# Altium schematic symbol library SCH - MCU - STM32 - ST MICROELECTRONICS STM32G071C(6-8-B)UX UFQFPN48.SchLib: 1 symbol
Pins are listed as number, name and electrical type; pins without a type are passive.

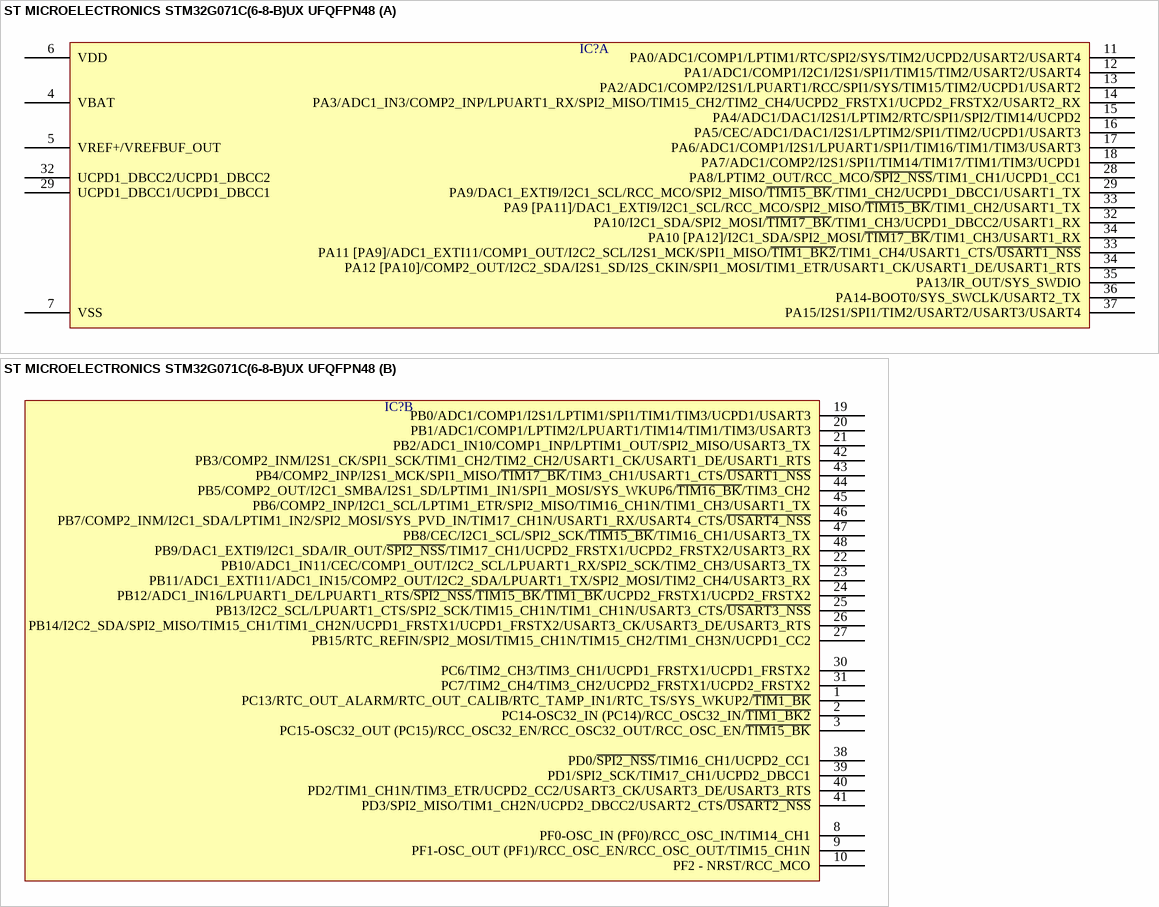
[diagram p0: symbol ST MICROELECTRONICS STM32G071C(6-8-B)UX UFQFPN48]

## ST MICROELECTRONICS STM32G071C(6-8-B)UX UFQFPN48
designator IC?  (value not drawn)
part A pins: 4 VBAT, 5 VREF+/VREFBUF_OUT, 6 VDD, 7 VSS, 11 PA0/ADC1/COMP1/LPTIM1/RTC/SPI2/SYS/TIM2/UCPD2/USART2/USART4, 12 PA1/ADC1/COMP1/I2C1/I2S1/SPI1/TIM15/TIM2/USART2/USART4, 13 PA2/ADC1/COMP2/I2S1/LPUART1/RCC/SPI1/SYS/TIM15/TIM2/UCPD1/USART2, 14 PA3/ADC1_IN3/COMP2_INP/LPUART1_RX/SPI2_MISO/TIM15_CH2/TIM2_CH4/UCPD2_FRSTX1/UCPD2_FRSTX2/USART2_RX, 15 PA4/ADC1/DAC1/I2S1/LPTIM2/RTC/SPI1/SPI2/TIM14/UCPD2, 16 PA5/CEC/ADC1/DAC1/I2S1/LPTIM2/SPI1/TIM2/UCPD1/USART3, 17 PA6/ADC1/COMP1/I2S1/LPUART1/SPI1/TIM16/TIM1/TIM3/USART3, 18 PA7/ADC1/COMP2/I2S1/SPI1/TIM14/TIM17/TIM1/TIM3/UCPD1, 28 PA8/LPTIM2_OUT/RCC_MCO/~{SPI2_NSS}/TIM1_CH1/UCPD1_CC1, 29 PA9/DAC1_EXTI9/I2C1_SCL/RCC_MCO/SPI2_MISO/~{TIM15_BK}/TIM1_CH2/UCPD1_DBCC1/USART1_TX, 29 UCPD1_DBCC1/UCPD1_DBCC1, 32 PA10/I2C1_SDA/SPI2_MOSI/~{TIM17_BK}/TIM1_CH3/UCPD1_DBCC2/USART1_RX, 32 UCPD1_DBCC2/UCPD1_DBCC2, 33 PA9 [PA11]/DAC1_EXTI9/I2C1_SCL/RCC_MCO/SPI2_MISO/~{TIM15_BK}/TIM1_CH2/USART1_TX, 33 PA11 [PA9]/ADC1_EXTI11/COMP1_OUT/I2C2_SCL/I2S1_MCK/SPI1_MISO/~{TIM1_BK2}/TIM1_CH4/USART1_CTS/~{USART1_NSS}, 34 PA10 [PA12]/I2C1_SDA/SPI2_MOSI/~{TIM17_BK}/TIM1_CH3/USART1_RX, 34 PA12 [PA10]/COMP2_OUT/I2C2_SDA/I2S1_SD/I2S_CKIN/SPI1_MOSI/TIM1_ETR/USART1_CK/USART1_DE/USART1_RTS, 35 PA13/IR_OUT/SYS_SWDIO, 36 PA14-BOOT0/SYS_SWCLK/USART2_TX, 37 PA15/I2S1/SPI1/TIM2/USART2/USART3/USART4
part B pins: 1 PC13/RTC_OUT_ALARM/RTC_OUT_CALIB/RTC_TAMP_IN1/RTC_TS/SYS_WKUP2/~{TIM1_BK}, 2 PC14-OSC32_IN (PC14)/RCC_OSC32_IN/~{TIM1_BK2}, 3 PC15-OSC32_OUT (PC15)/RCC_OSC32_EN/RCC_OSC32_OUT/RCC_OSC_EN/~{TIM15_BK}, 8 PF0-OSC_IN (PF0)/RCC_OSC_IN/TIM14_CH1, 9 PF1-OSC_OUT (PF1)/RCC_OSC_EN/RCC_OSC_OUT/TIM15_CH1N, 10 PF2 - NRST/RCC_MCO, 19 PB0/ADC1/COMP1/I2S1/LPTIM1/SPI1/TIM1/TIM3/UCPD1/USART3, 20 PB1/ADC1/COMP1/LPTIM2/LPUART1/TIM14/TIM1/TIM3/USART3, 21 PB2/ADC1_IN10/COMP1_INP/LPTIM1_OUT/SPI2_MISO/USART3_TX, 22 PB10/ADC1_IN11/CEC/COMP1_OUT/I2C2_SCL/LPUART1_RX/SPI2_SCK/TIM2_CH3/USART3_TX, 23 PB11/ADC1_EXTI11/ADC1_IN15/COMP2_OUT/I2C2_SDA/LPUART1_TX/SPI2_MOSI/TIM2_CH4/USART3_RX, 24 PB12/ADC1_IN16/LPUART1_DE/LPUART1_RTS/~{SPI2_NSS}/~{TIM15_BK}/~{TIM1_BK}/UCPD2_FRSTX1/UCPD2_FRSTX2, 25 PB13/I2C2_SCL/LPUART1_CTS/SPI2_SCK/TIM15_CH1N/TIM1_CH1N/USART3_CTS/~{USART3_NSS}, 26 PB14/I2C2_SDA/SPI2_MISO/TIM15_CH1/TIM1_CH2N/UCPD1_FRSTX1/UCPD1_FRSTX2/USART3_CK/USART3_DE/USART3_RTS, 27 PB15/RTC_REFIN/SPI2_MOSI/TIM15_CH1N/TIM15_CH2/TIM1_CH3N/UCPD1_CC2, 30 PC6/TIM2_CH3/TIM3_CH1/UCPD1_FRSTX1/UCPD1_FRSTX2, 31 PC7/TIM2_CH4/TIM3_CH2/UCPD2_FRSTX1/UCPD2_FRSTX2, 38 PD0/~{SPI2_NSS}/TIM16_CH1/UCPD2_CC1, 39 PD1/SPI2_SCK/TIM17_CH1/UCPD2_DBCC1, 40 PD2/TIM1_CH1N/TIM3_ETR/UCPD2_CC2/USART3_CK/USART3_DE/USART3_RTS, 41 PD3/SPI2_MISO/TIM1_CH2N/UCPD2_DBCC2/USART2_CTS/~{USART2_NSS}, 42 PB3/COMP2_INM/I2S1_CK/SPI1_SCK/TIM1_CH2/TIM2_CH2/USART1_CK/USART1_DE/USART1_RTS, 43 PB4/COMP2_INP/I2S1_MCK/SPI1_MISO/~{TIM17_BK}/TIM3_CH1/USART1_CTS/~{USART1_NSS}, 44 PB5/COMP2_OUT/I2C1_SMBA/I2S1_SD/LPTIM1_IN1/SPI1_MOSI/SYS_WKUP6/~{TIM16_BK}/TIM3_CH2, 45 PB6/COMP2_INP/I2C1_SCL/LPTIM1_ETR/SPI2_MISO/TIM16_CH1N/TIM1_CH3/USART1_TX, 46 PB7/COMP2_INM/I2C1_SDA/LPTIM1_IN2/SPI2_MOSI/SYS_PVD_IN/TIM17_CH1N/USART1_RX/USART4_CTS/~{USART4_NSS}, 47 PB8/CEC/I2C1_SCL/SPI2_SCK/~{TIM15_BK}/TIM16_CH1/USART3_TX, 48 PB9/DAC1_EXTI9/I2C1_SDA/IR_OUT/~{SPI2_NSS}/TIM17_CH1/UCPD2_FRSTX1/UCPD2_FRSTX2/USART3_RX